# Altium schematic symbol library STM8S003F3P6.SchLib: 1 symbol
Pins are listed as number, name and electrical type; pins without a type are passive.

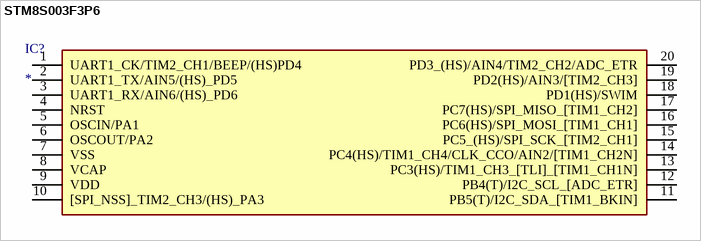
[diagram p0: symbol STM8S003F3P6]

## STM8S003F3P6
designator IC?
Integrated Circuit; Manufacturer_Name: STMicroelectronics; Manufacturer_Part_Number: STM8S003F3P6; Datasheet Link: http://www.st.com/web/en/resource/technical/document/datasheet/DM00024550.pdf; Height: 1.2mm; Arrow Part Number: STM8S003F3P6; Arrow Price/Stock: https://www.arrow.com/en/products/stm8s003f3p6/stmicroelectronics; Mouser Part Number: 511-STM8S003F3P6; Mouser Price/Stock: https://www.mouser.co.uk/ProductDetail/STMicroelectronics/STM8S003F3P6?qs=vV0pr1uq7fD%252BGii5YhjnYw%3D%3D
footprint SOP65P640X120-20N
pins: 1 UART1_CK/TIM2_CH1/BEEP/(HS)PD4, 2 UART1_TX/AIN5/(HS)_PD5, 3 UART1_RX/AIN6/(HS)_PD6, 4 NRST, 5 OSCIN/PA1, 6 OSCOUT/PA2, 7 VSS, 8 VCAP, 9 VDD, 10 [SPI_NSS]_TIM2_CH3/(HS)_PA3, 11 PB5(T)/I2C_SDA_[TIM1_BKIN], 12 PB4(T)/I2C_SCL_[ADC_ETR], 13 PC3(HS)/TIM1_CH3_[TLI]_[TIM1_CH1N], 14 PC4(HS)/TIM1_CH4/CLK_CCO/AIN2/[TIM1_CH2N], 15 PC5_(HS)/SPI_SCK_[TIM2_CH1], 16 PC6(HS)/SPI_MOSI_[TIM1_CH1], 17 PC7(HS)/SPI_MISO_[TIM1_CH2], 18 PD1(HS)/SWIM, 19 PD2(HS)/AIN3/[TIM2_CH3], 20 PD3_(HS)/AIN4/TIM2_CH2/ADC_ETR